# Altium footprint library PAN-EEE-FP-G.PcbLib: 1 footprints
Each footprint in its own frame and in the unit in brackets; x right, y up, seen from the top. Pads: shape width x height; smd on the part's side, far side on the other; paste and mask are expansions set on the pad; w line width, h text height; cw(c..) or ccw(c..) is an arc to the next point about the centre after c.
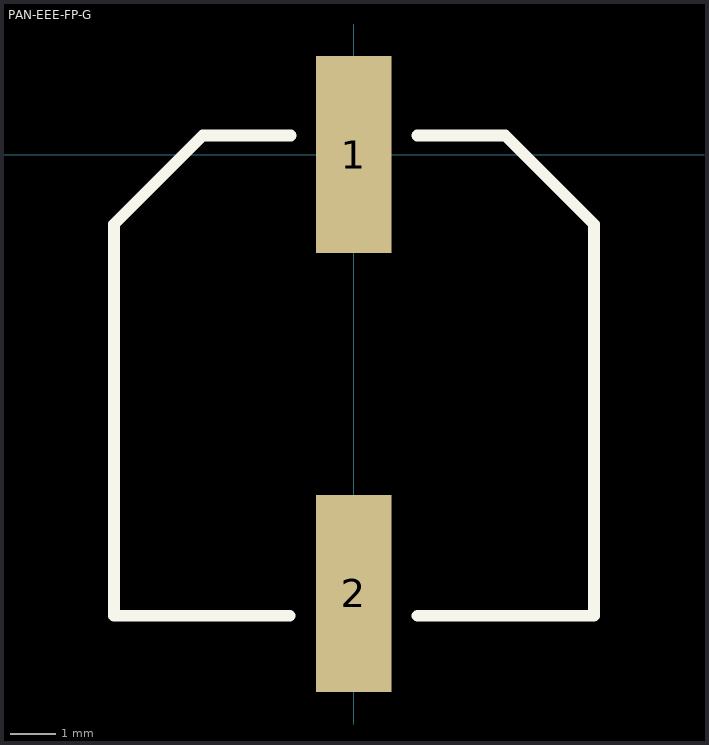
[diagram p0: the footprint, top view; thin cyan lines are the x and y axes]

## PAN-EEE-FP-G [mil]
pads (2):
  rect 65x170 smd: 1(0,0) 2(0,-377.95)
Top Overlay:
  lines w10: -55,-397 -206.39,-397 -206.39,-60 -130,16.39 -54,16.39 ; 54.61,16.39 130.61,16.39 207,-60 207,-397 55,-397
3D body: height 401.77, standoff -0.2, extent -203,-418.35 202.51,38.35